# Altium footprint library Res_Advanced_Photonix_PDV-P9002_eec_0.PcbLib: 1 footprints
Each footprint in its own frame and in the unit in brackets; x right, y up, seen from the top. Pads: shape width x height; smd on the part's side, far side on the other; paste and mask are expansions set on the pad; w line width, h text height; cw(c..) or ccw(c..) is an arc to the next point about the centre after c.
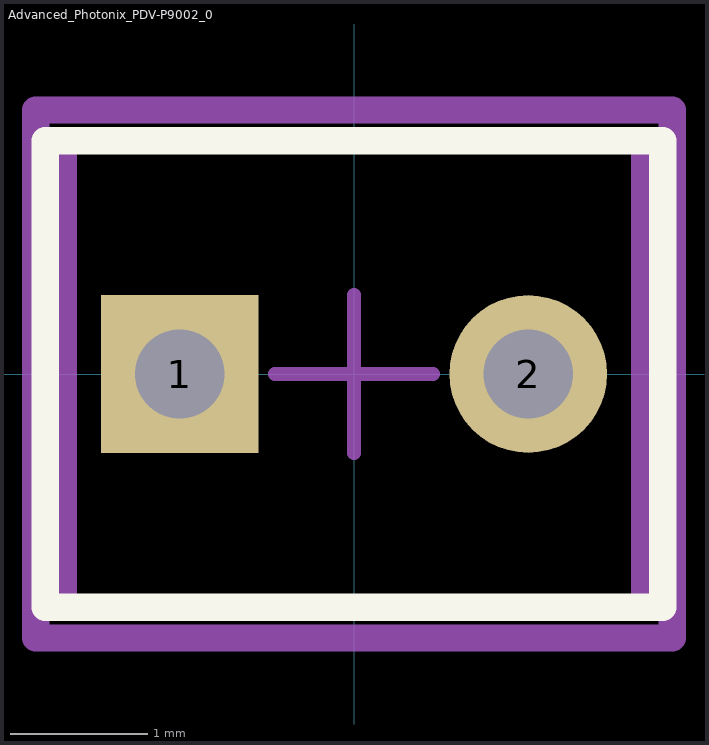
[diagram p0: the footprint, top view; thin cyan lines are the x and y axes]

## Advanced_Photonix_PDV-P9002_0 [mm]
pads (2):
  rect 1.15x1.15 hole 0.65 paste-1000 mask+0: 1(-1.27,0)
  round 1.15 hole 0.65 paste-1000 mask+0: 2(1.27,0)
Top Overlay:
  lines w0.2: -2.25,-1.7 2.25,-1.7 2.25,1.7 -2.25,1.7 -2.25,-1.7
Mechanical 10:
  lines w0.2: -2.32,-1.925 2.32,-1.925 2.32,1.925 -2.32,1.925 -2.32,-1.925
  text ".Designator" at 0,0 h1
Mechanical 12:
  lines w0.15: -2.095,-1.7 2.095,-1.7 2.095,1.7 -2.095,1.7 -2.095,-1.7
Mechanical 15:
  lines w0.1: -0.577,0 0.577,0 ; 0,-0.577 0,0.577
  lines w0.2: -2.32,-1.925 2.32,-1.925 2.32,1.925 -2.32,1.925 -2.32,-1.925
3D body "Res_Advanced_Photonix_PDV-P9002_eec.STEP": height 0.25, standoff 0, extent -2.32,-1.925 2.32,1.925